# EAGLE library part MCP3208 (library HyTechDevices)
Analog to Digital Converter
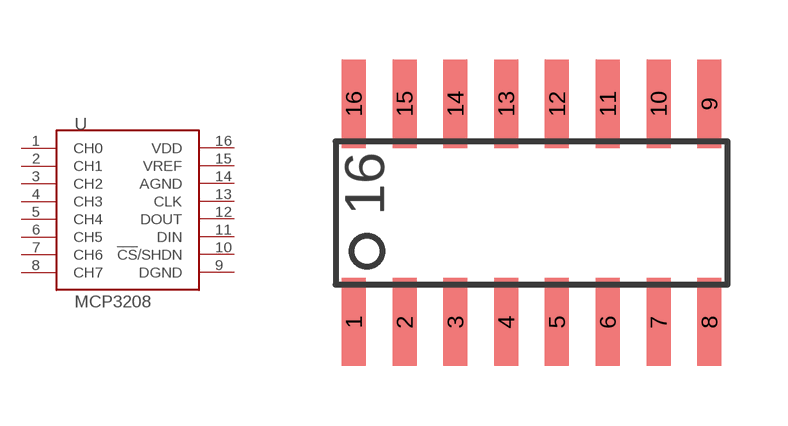
[diagram p11: symbol with the pads of SOIC-16; footprint SOIC-16]

Designator prefix -

## MCP3208SOIC  [SOIC-16]
1  CH0
2  CH1
3  CH2
4  CH3
5  CH4
6  CH5
7  CH6
8  CH7
9  DGND
10  !CS!/SHDN
11  DIN
12  DOUT
13  CLK
14  AGND
15  VREF
16  VDD

## Footprint SOIC-16 (pad centres in mm)
Small Outline Integrated Circuit
smd 0.6 x 2.2: 1 -4.445,-2.794; 2 -3.175,-2.794; 3 -1.905,-2.794; 4 -0.635,-2.794; 5 0.635,-2.794; 6 1.905,-2.794; 7 3.175,-2.794; 8 4.445,-2.794; 9 4.445,2.667; 10 3.175,2.667; 11 1.905,2.667; 12 0.635,2.667; 13 -0.635,2.667; 14 -1.905,2.667; 15 -3.175,2.667; 16 -4.445,2.667